# Altium footprint library TBS.PcbLib: 1 footprints
Each footprint in its own frame and in the unit in brackets; x right, y up, seen from the top. Pads: shape width x height; smd on the part's side, far side on the other; paste and mask are expansions set on the pad; w line width, h text height; cw(c..) or ccw(c..) is an arc to the next point about the centre after c.
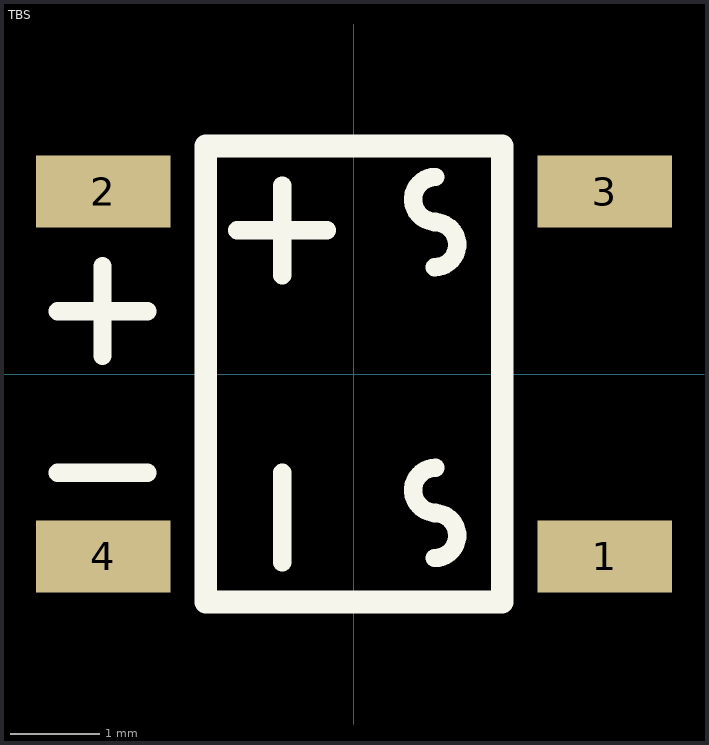
[diagram p0: the footprint, top view; thin cyan lines are the x and y axes]

## TBS [mm]
pads (4):
  rect 1.5x0.8 smd: 1(2.794,-2.032) 2(-2.794,2.032) 3(2.794,2.032) 4(-2.794,-2.032)
Top Overlay:
  lines w0.203: -3.3,-1.1 -2.3,-1.1 ; -3.3,0.7 -2.3,0.7 ; -2.8,0.2 -2.8,1.2 ; -1.3,1.6 -0.3,1.6 ; -0.8,-2.1 -0.8,-1.1 ; -0.8,1.1 -0.8,2.1 ; 0.9,-2.05 ccw(c0.9,-1.8) 0.9,-1.55 ; 0.9,1.19 ccw(c0.9,1.44) 0.9,1.69 ; 0.908,-1.545 cw(c0.908,-1.295) 0.908,-1.045 ; 0.908,1.695 cw(c0.908,1.945) 0.908,2.195
  lines w0.254: -1.651,-2.54 -1.651,2.54 1.651,2.54 1.651,-2.54 -1.651,-2.54